# Altium footprint library SJ-3523-SMT-TR.PcbLib: 1 footprints
Each footprint in its own frame and in the unit in brackets; x right, y up, seen from the top. Pads: shape width x height; smd on the part's side, far side on the other; paste and mask are expansions set on the pad; w line width, h text height; cw(c..) or ccw(c..) is an arc to the next point about the centre after c.
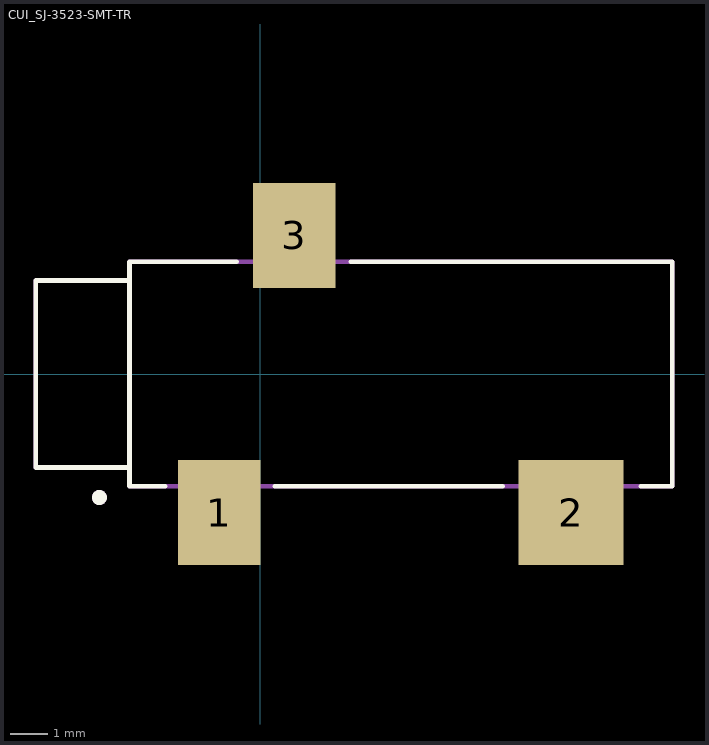
[diagram p0: the footprint, top view; thin cyan lines are the x and y axes]

## CUI_SJ-3523-SMT-TR [mm] "CONN JACK STEREO 3.5MM"
pads (3):
  rect 2.2x2.8 smd: 1(-1.1,-3.7) 3(0.9,3.7)
  rect 2.8x2.8 smd: 2(8.3,-3.7)
Top Overlay:
  circle w0.2: c-4.3,-3.3 r0.1
  lines w0.127: -2.54,-3 -3.5,-3 -3.5,-2.5 ; -0.635,3 -3.5,3 -3.5,2.5 ; 0.381,-3 6.477,-3 ; 2.413,3 11,3 11,-3 10.16,-3 ; -3.5,-2.5 -6,-2.5 -6,2.5 -3.5,2.5 ; -3.5,-2.5 -3.5,2.5
Mechanical 1:
  circle w0.2: c-4.3,-3.3 r0.1
  lines w0.127: -3.5,-2.5 -6,-2.5 -6,2.5 -3.5,2.5 ; -3.5,-3 11,-3 11,3 -3.5,3 -3.5,-3
3D body "CUI_SJ-3523-SMT-TR.step": height 5, standoff -0.8, extent -5.951,-4.5 11.049,4.5